# Altium integrated library Analog Devices Operational Amplifiers.IntLib: 2102 symbols (part 21 of 70)
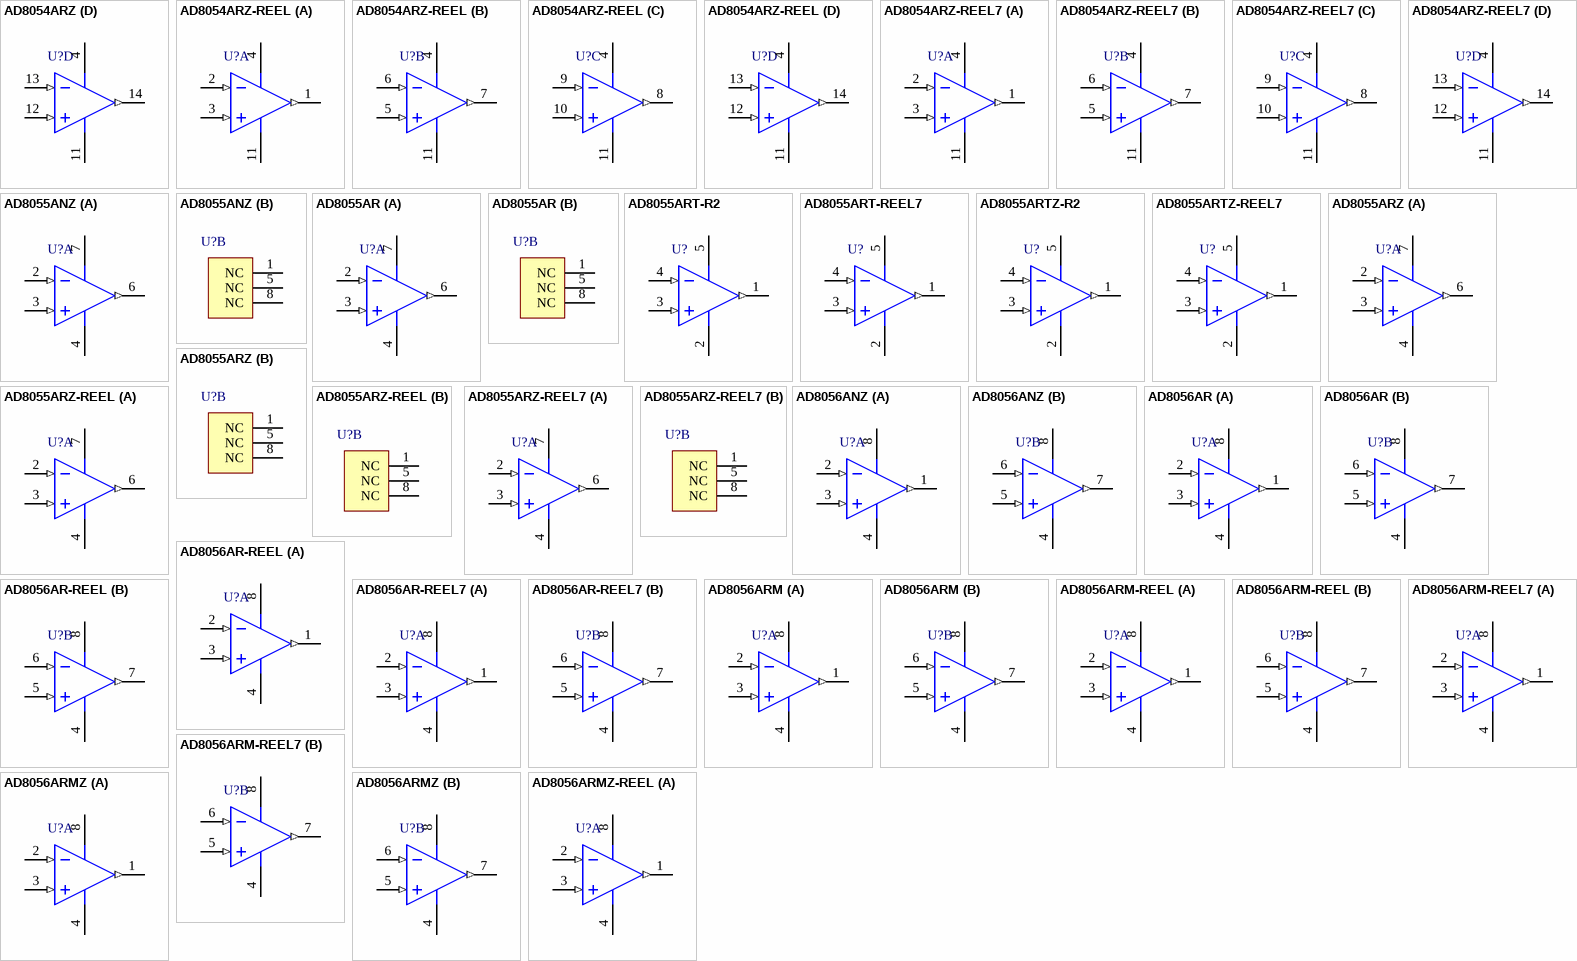
[diagram p134: symbols AD8054ARZ to AD8056ARMZ-REEL]

## AD8056AR-REEL7
designator U?
Double Channel Low Power Operational Amplifier, 300 MHz BW, 1.4 KV/us SR, Industrial, 8-pin SOIC (R-8), Reel; Generic Part Number: AD8056; Manufacturer: Analog Devices; PartNumber: AD8056AR-REEL7; Amplifiers Per Package: 2; Input Bias Current: 400nA; Input Offset Voltage: 3mV; Iq/Amp: 6mA; Small Signal Bandwidth: 300MHz; V Span Max: 12V; V Span Min: 8V; DatasheetVersion: Rev. J; PackageVersion: 060506-A; PackageReference: R-8; PackageDescription: 8-Pin Standard Small Outline Package, Body 3.9 x 4.9 mm, Pitch 1.27 mm; Supplier 1: Digi-Key; Supplier Part Number 1: AD8056AR-REEL7TR-ND; Supplier 2: Newark; Supplier Part Number 2: 09B6421; Packing: Reel; Slew Rate: 1.4KV/us; Mounting Technology: Surface Mount; Code_JEDEC: MS-012-AA; ComponentLink1Description: Manufacturer URL; ComponentLink1URL: http://www.analog.com/en/index.html; ComponentLink2Description: Datasheet; ComponentLink2URL: http://www.analog.com/static/imported-files/data_sheets/AD8055_8056.pdf; ComponentLink3Description: Package Specification; ComponentLink3URL: http://www.analog.com/static/imported-files/packages/PKG_PDF/SOIC_Narrow%20(R)/R_8.pdf
footprint ADI-R-8_N (SOIC, 8-Leads, Body 4.9x3.9mm, Pitch 1.27mm, IPC Medium Density)
footprint ADI-R-8_L (SOIC, 8-Leads, Body 4.9x3.9mm, Pitch 1.27mm, IPC High Density)
footprint ADI-R-8_M (SOIC, 8-Leads, Body 4.9x3.9mm, Pitch 1.27mm, IPC Low Density)
pins on every part: 4 -VS (power), 8 +VS (power)
part A pins: 1 OUT 1 (out), 2 -IN 1 (in), 3 +IN 1 (in)
part B pins: 5 +IN 2 (in), 6 -IN 2 (in), 7 OUT 2 (out)

## AD8056ARM
designator U?
Double Channel Low Power Operational Amplifier, 300 MHz BW, 1.4 KV/us SR, Industrial, 8-pin SOP (RM-8), Tube; Generic Part Number: AD8056; Manufacturer: Analog Devices; PartNumber: AD8056ARM; Amplifiers Per Package: 2; Input Bias Current: 400nA; Input Offset Voltage: 3mV; Iq/Amp: 6mA; Small Signal Bandwidth: 300MHz; V Span Max: 12V; V Span Min: 8V; DatasheetVersion: Rev. J; PackageReference: RM-8; PackageDescription: 8-Pin Mini Small Outline Package, Body 3 x 3 mm, Pitch 0.65 mm; Supplier 1: Digi-Key; Supplier Part Number 1: AD8056ARM-ND; Packing: Tube; Slew Rate: 1.4KV/us; Mounting Technology: Surface Mount; Code_JEDEC: MO-187-AA; ComponentLink1Description: Manufacturer URL; ComponentLink1URL: http://www.analog.com/en/index.html; ComponentLink2Description: Datasheet; ComponentLink2URL: http://www.analog.com/static/imported-files/data_sheets/AD8055_8056.pdf; ComponentLink3Description: Package Specification; ComponentLink3URL: http://www.analog.com/static/imported-files/packages/PKG_PDF/MSOP%28RM%29/RM_8.pdf
footprint ADI-RM-8_N (SOP, 8-Leads, Body 3x3mm, Pitch 0.65mm, IPC Medium Density)
footprint ADI-RM-8_L (SOP, 8-Leads, Body 3x3mm, Pitch 0.65mm, IPC High Density)
footprint ADI-RM-8_M (SOP, 8-Leads, Body 3x3mm, Pitch 0.65mm, IPC Low Density)
pins on every part: 4 -VS (power), 8 +VS (power)
part A pins: 1 OUT 1 (out), 2 -IN 1 (in), 3 +IN 1 (in)
part B pins: 5 +IN 2 (in), 6 -IN 2 (in), 7 OUT 2 (out)

## AD8056ARM-REEL
designator U?
Double Channel Low Power Operational Amplifier, 300 MHz BW, 1.4 KV/us SR, Industrial, 8-pin SOP (RM-8), Reel; Generic Part Number: AD8056; Manufacturer: Analog Devices; PartNumber: AD8056ARM-REEL; Amplifiers Per Package: 2; Input Bias Current: 400nA; Input Offset Voltage: 3mV; Iq/Amp: 6mA; Small Signal Bandwidth: 300MHz; V Span Max: 12V; V Span Min: 8V; DatasheetVersion: Rev. J; PackageReference: RM-8; PackageDescription: 8-Pin Mini Small Outline Package, Body 3 x 3 mm, Pitch 0.65 mm; Supplier 1: Digi-Key; Supplier Part Number 1: AD8056ARM-REEL-ND; Packing: Reel; Slew Rate: 1.4KV/us; Mounting Technology: Surface Mount; Code_JEDEC: MO-187-AA; ComponentLink1Description: Manufacturer URL; ComponentLink1URL: http://www.analog.com/en/index.html; ComponentLink2Description: Datasheet; ComponentLink2URL: http://www.analog.com/static/imported-files/data_sheets/AD8055_8056.pdf; ComponentLink3Description: Package Specification; ComponentLink3URL: http://www.analog.com/static/imported-files/packages/PKG_PDF/MSOP%28RM%29/RM_8.pdf
footprint ADI-RM-8_N (SOP, 8-Leads, Body 3x3mm, Pitch 0.65mm, IPC Medium Density)
footprint ADI-RM-8_L (SOP, 8-Leads, Body 3x3mm, Pitch 0.65mm, IPC High Density)
footprint ADI-RM-8_M (SOP, 8-Leads, Body 3x3mm, Pitch 0.65mm, IPC Low Density)
pins on every part: 4 -VS (power), 8 +VS (power)
part A pins: 1 OUT 1 (out), 2 -IN 1 (in), 3 +IN 1 (in)
part B pins: 5 +IN 2 (in), 6 -IN 2 (in), 7 OUT 2 (out)

## AD8056ARM-REEL7
designator U?
Double Channel Low Power Operational Amplifier, 300 MHz BW, 1.4 KV/us SR, Industrial, 8-pin SOP (RM-8), Reel; Generic Part Number: AD8056; Manufacturer: Analog Devices; PartNumber: AD8056ARM-REEL7; Amplifiers Per Package: 2; Input Bias Current: 400nA; Input Offset Voltage: 3mV; Iq/Amp: 6mA; Small Signal Bandwidth: 300MHz; V Span Max: 12V; V Span Min: 8V; DatasheetVersion: Rev. J; PackageReference: RM-8; PackageDescription: 8-Pin Mini Small Outline Package, Body 3 x 3 mm, Pitch 0.65 mm; Supplier 1: Digi-Key; Supplier Part Number 1: AD8056ARM-REEL7-ND; Packing: Reel; Slew Rate: 1.4KV/us; Mounting Technology: Surface Mount; Code_JEDEC: MO-187-AA; ComponentLink1Description: Manufacturer URL; ComponentLink1URL: http://www.analog.com/en/index.html; ComponentLink2Description: Datasheet; ComponentLink2URL: http://www.analog.com/static/imported-files/data_sheets/AD8055_8056.pdf; ComponentLink3Description: Package Specification; ComponentLink3URL: http://www.analog.com/static/imported-files/packages/PKG_PDF/MSOP%28RM%29/RM_8.pdf
footprint ADI-RM-8_N (SOP, 8-Leads, Body 3x3mm, Pitch 0.65mm, IPC Medium Density)
footprint ADI-RM-8_L (SOP, 8-Leads, Body 3x3mm, Pitch 0.65mm, IPC High Density)
footprint ADI-RM-8_M (SOP, 8-Leads, Body 3x3mm, Pitch 0.65mm, IPC Low Density)
pins on every part: 4 -VS (power), 8 +VS (power)
part A pins: 1 OUT 1 (out), 2 -IN 1 (in), 3 +IN 1 (in)
part B pins: 5 +IN 2 (in), 6 -IN 2 (in), 7 OUT 2 (out)

## AD8056ARMZ
designator U?
Double Channel Low Power Operational Amplifier, 300 MHz BW, 1.4 KV/us SR, Industrial, 8-pin SOP (RM-8), Tube; Generic Part Number: AD8056; Manufacturer: Analog Devices; PartNumber: AD8056ARMZ; Amplifiers Per Package: 2; Input Bias Current: 400nA; Input Offset Voltage: 3mV; Iq/Amp: 6mA; Small Signal Bandwidth: 300MHz; V Span Max: 12V; V Span Min: 8V; DatasheetVersion: Rev. J; PackageReference: RM-8; PackageDescription: 8-Pin Mini Small Outline Package, Body 3 x 3 mm, Pitch 0.65 mm; Supplier 1: Digi-Key; Supplier Part Number 1: AD8056ARMZ-ND; Supplier 2: Newark; Supplier Part Number 2: 59K6306; Packing: Tube; Slew Rate: 1.4KV/us; Mounting Technology: Surface Mount; Code_JEDEC: MO-187-AA; ComponentLink1Description: Manufacturer URL; ComponentLink1URL: http://www.analog.com/en/index.html; ComponentLink2Description: Datasheet; ComponentLink2URL: http://www.analog.com/static/imported-files/data_sheets/AD8055_8056.pdf; ComponentLink3Description: Package Specification; ComponentLink3URL: http://www.analog.com/static/imported-files/packages/PKG_PDF/MSOP%28RM%29/RM_8.pdf
footprint ADI-RM-8_N (SOP, 8-Leads, Body 3x3mm, Pitch 0.65mm, IPC Medium Density)
footprint ADI-RM-8_L (SOP, 8-Leads, Body 3x3mm, Pitch 0.65mm, IPC High Density)
footprint ADI-RM-8_M (SOP, 8-Leads, Body 3x3mm, Pitch 0.65mm, IPC Low Density)
pins on every part: 4 -VS (power), 8 +VS (power)
part A pins: 1 OUT 1 (out), 2 -IN 1 (in), 3 +IN 1 (in)
part B pins: 5 +IN 2 (in), 6 -IN 2 (in), 7 OUT 2 (out)

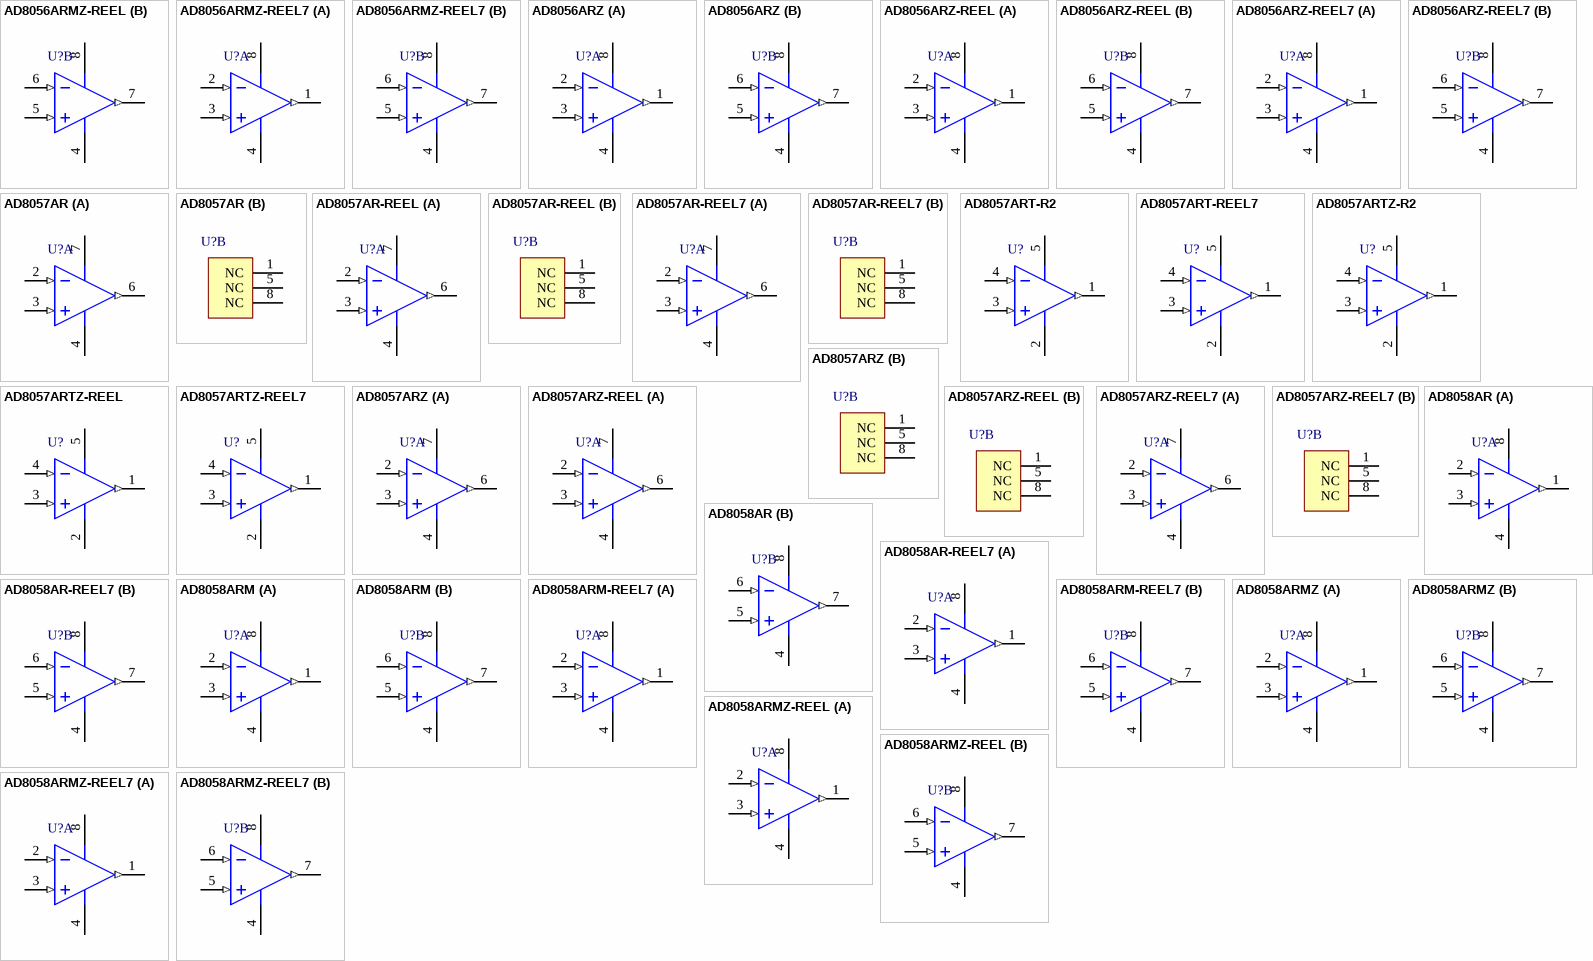
[diagram p31: symbols AD8056ARMZ-REEL to AD8058ARMZ-REEL7]

## AD8056ARMZ-REEL
designator U?
Double Channel Low Power Operational Amplifier, 300 MHz BW, 1.4 KV/us SR, Industrial, 8-pin SOP (RM-8), Reel; Generic Part Number: AD8056; Manufacturer: Analog Devices; PartNumber: AD8056ARMZ-REEL; Amplifiers Per Package: 2; Input Bias Current: 400nA; Input Offset Voltage: 3mV; Iq/Amp: 6mA; Small Signal Bandwidth: 300MHz; V Span Max: 12V; V Span Min: 8V; DatasheetVersion: Rev. J; PackageReference: RM-8; PackageDescription: 8-Pin Mini Small Outline Package, Body 3 x 3 mm, Pitch 0.65 mm; Supplier 1: Digi-Key; Supplier Part Number 1: AD8056ARMZ-REEL-ND; Packing: Reel; Slew Rate: 1.4KV/us; Mounting Technology: Surface Mount; Code_JEDEC: MO-187-AA; ComponentLink1Description: Manufacturer URL; ComponentLink1URL: http://www.analog.com/en/index.html; ComponentLink2Description: Datasheet; ComponentLink2URL: http://www.analog.com/static/imported-files/data_sheets/AD8055_8056.pdf; ComponentLink3Description: Package Specification; ComponentLink3URL: http://www.analog.com/static/imported-files/packages/PKG_PDF/MSOP%28RM%29/RM_8.pdf
footprint ADI-RM-8_N (SOP, 8-Leads, Body 3x3mm, Pitch 0.65mm, IPC Medium Density)
footprint ADI-RM-8_L (SOP, 8-Leads, Body 3x3mm, Pitch 0.65mm, IPC High Density)
footprint ADI-RM-8_M (SOP, 8-Leads, Body 3x3mm, Pitch 0.65mm, IPC Low Density)
pins on every part: 4 -VS (power), 8 +VS (power)
part A pins: 1 OUT 1 (out), 2 -IN 1 (in), 3 +IN 1 (in)
part B pins: 5 +IN 2 (in), 6 -IN 2 (in), 7 OUT 2 (out)

## AD8056ARMZ-REEL7
designator U?
Double Channel Low Power Operational Amplifier, 300 MHz BW, 1.4 KV/us SR, Industrial, 8-pin SOP (RM-8), Reel; Generic Part Number: AD8056; Manufacturer: Analog Devices; PartNumber: AD8056ARMZ-REEL7; Amplifiers Per Package: 2; Input Bias Current: 400nA; Input Offset Voltage: 3mV; Iq/Amp: 6mA; Small Signal Bandwidth: 300MHz; V Span Max: 12V; V Span Min: 8V; DatasheetVersion: Rev. J; PackageReference: RM-8; PackageDescription: 8-Pin Mini Small Outline Package, Body 3 x 3 mm, Pitch 0.65 mm; Supplier 1: Digi-Key; Supplier Part Number 1: AD8056ARMZ-REEL7-ND; Packing: Reel; Slew Rate: 1.4KV/us; Mounting Technology: Surface Mount; Code_JEDEC: MO-187-AA; ComponentLink1Description: Manufacturer URL; ComponentLink1URL: http://www.analog.com/en/index.html; ComponentLink2Description: Datasheet; ComponentLink2URL: http://www.analog.com/static/imported-files/data_sheets/AD8055_8056.pdf; ComponentLink3Description: Package Specification; ComponentLink3URL: http://www.analog.com/static/imported-files/packages/PKG_PDF/MSOP%28RM%29/RM_8.pdf
footprint ADI-RM-8_N (SOP, 8-Leads, Body 3x3mm, Pitch 0.65mm, IPC Medium Density)
footprint ADI-RM-8_L (SOP, 8-Leads, Body 3x3mm, Pitch 0.65mm, IPC High Density)
footprint ADI-RM-8_M (SOP, 8-Leads, Body 3x3mm, Pitch 0.65mm, IPC Low Density)
pins on every part: 4 -VS (power), 8 +VS (power)
part A pins: 1 OUT 1 (out), 2 -IN 1 (in), 3 +IN 1 (in)
part B pins: 5 +IN 2 (in), 6 -IN 2 (in), 7 OUT 2 (out)

## AD8056ARZ
designator U?
Double Channel Low Power Operational Amplifier, 300 MHz BW, 1.4 KV/us SR, Industrial, 8-pin SOIC (R-8), Tube; Generic Part Number: AD8056; Manufacturer: Analog Devices; PartNumber: AD8056ARZ; Amplifiers Per Package: 2; Input Bias Current: 400nA; Input Offset Voltage: 3mV; Iq/Amp: 6mA; Small Signal Bandwidth: 300MHz; V Span Max: 12V; V Span Min: 8V; DatasheetVersion: Rev. J; PackageVersion: 060506-A; PackageReference: R-8; PackageDescription: 8-Pin Standard Small Outline Package, Body 3.9 x 4.9 mm, Pitch 1.27 mm; Supplier 1: Digi-Key; Supplier Part Number 1: AD8056ARZ-ND; Supplier 2: Farnell; Supplier Part Number 2: 1660981; Supplier 3: Newark; Supplier Part Number 3: 82H2962; Packing: Tube; Slew Rate: 1.4KV/us; Mounting Technology: Surface Mount; Code_JEDEC: MS-012-AA; ComponentLink1Description: Manufacturer URL; ComponentLink1URL: http://www.analog.com/en/index.html; ComponentLink2Description: Datasheet; ComponentLink2URL: http://www.analog.com/static/imported-files/data_sheets/AD8055_8056.pdf; ComponentLink3Description: Package Specification; ComponentLink3URL: http://www.analog.com/static/imported-files/packages/PKG_PDF/SOIC_Narrow%20(R)/R_8.pdf
footprint ADI-R-8_N (SOIC, 8-Leads, Body 4.9x3.9mm, Pitch 1.27mm, IPC Medium Density)
footprint ADI-R-8_L (SOIC, 8-Leads, Body 4.9x3.9mm, Pitch 1.27mm, IPC High Density)
footprint ADI-R-8_M (SOIC, 8-Leads, Body 4.9x3.9mm, Pitch 1.27mm, IPC Low Density)
pins on every part: 4 -VS (power), 8 +VS (power)
part A pins: 1 OUT 1 (out), 2 -IN 1 (in), 3 +IN 1 (in)
part B pins: 5 +IN 2 (in), 6 -IN 2 (in), 7 OUT 2 (out)

## AD8056ARZ-REEL
designator U?
Double Channel Low Power Operational Amplifier, 300 MHz BW, 1.4 KV/us SR, Industrial, 8-pin SOIC (R-8), Reel; Generic Part Number: AD8056; Manufacturer: Analog Devices; PartNumber: AD8056ARZ-REEL; Amplifiers Per Package: 2; Input Bias Current: 400nA; Input Offset Voltage: 3mV; Iq/Amp: 6mA; Small Signal Bandwidth: 300MHz; V Span Max: 12V; V Span Min: 8V; DatasheetVersion: Rev. J; PackageVersion: 060506-A; PackageReference: R-8; PackageDescription: 8-Pin Standard Small Outline Package, Body 3.9 x 4.9 mm, Pitch 1.27 mm; Supplier 1: Digi-Key; Supplier Part Number 1: AD8056ARZ-REEL-ND; Packing: Reel; Slew Rate: 1.4KV/us; Mounting Technology: Surface Mount; Code_JEDEC: MS-012-AA; ComponentLink1Description: Manufacturer URL; ComponentLink1URL: http://www.analog.com/en/index.html; ComponentLink2Description: Datasheet; ComponentLink2URL: http://www.analog.com/static/imported-files/data_sheets/AD8055_8056.pdf; ComponentLink3Description: Package Specification; ComponentLink3URL: http://www.analog.com/static/imported-files/packages/PKG_PDF/SOIC_Narrow%20(R)/R_8.pdf
footprint ADI-R-8_N (SOIC, 8-Leads, Body 4.9x3.9mm, Pitch 1.27mm, IPC Medium Density)
footprint ADI-R-8_L (SOIC, 8-Leads, Body 4.9x3.9mm, Pitch 1.27mm, IPC High Density)
footprint ADI-R-8_M (SOIC, 8-Leads, Body 4.9x3.9mm, Pitch 1.27mm, IPC Low Density)
pins on every part: 4 -VS (power), 8 +VS (power)
part A pins: 1 OUT 1 (out), 2 -IN 1 (in), 3 +IN 1 (in)
part B pins: 5 +IN 2 (in), 6 -IN 2 (in), 7 OUT 2 (out)

## AD8056ARZ-REEL7
designator U?
Double Channel Low Power Operational Amplifier, 300 MHz BW, 1.4 KV/us SR, Industrial, 8-pin SOIC (R-8), Reel; Generic Part Number: AD8056; Manufacturer: Analog Devices; PartNumber: AD8056ARZ-REEL7; Amplifiers Per Package: 2; Input Bias Current: 400nA; Input Offset Voltage: 3mV; Iq/Amp: 6mA; Small Signal Bandwidth: 300MHz; V Span Max: 12V; V Span Min: 8V; DatasheetVersion: Rev. J; PackageVersion: 060506-A; PackageReference: R-8; PackageDescription: 8-Pin Standard Small Outline Package, Body 3.9 x 4.9 mm, Pitch 1.27 mm; Supplier 1: Digi-Key; Supplier Part Number 1: AD8056ARZ-REEL7-ND; Packing: Reel; Slew Rate: 1.4KV/us; Mounting Technology: Surface Mount; Code_JEDEC: MS-012-AA; ComponentLink1Description: Manufacturer URL; ComponentLink1URL: http://www.analog.com/en/index.html; ComponentLink2Description: Datasheet; ComponentLink2URL: http://www.analog.com/static/imported-files/data_sheets/AD8055_8056.pdf; ComponentLink3Description: Package Specification; ComponentLink3URL: http://www.analog.com/static/imported-files/packages/PKG_PDF/SOIC_Narrow%20(R)/R_8.pdf
footprint ADI-R-8_N (SOIC, 8-Leads, Body 4.9x3.9mm, Pitch 1.27mm, IPC Medium Density)
footprint ADI-R-8_L (SOIC, 8-Leads, Body 4.9x3.9mm, Pitch 1.27mm, IPC High Density)
footprint ADI-R-8_M (SOIC, 8-Leads, Body 4.9x3.9mm, Pitch 1.27mm, IPC Low Density)
pins on every part: 4 -VS (power), 8 +VS (power)
part A pins: 1 OUT 1 (out), 2 -IN 1 (in), 3 +IN 1 (in)
part B pins: 5 +IN 2 (in), 6 -IN 2 (in), 7 OUT 2 (out)

## AD8057AR
designator U?
Single Channel Low Power Operational Amplifier, 325 MHz BW, 1.15 KV/us SR, Industrial, 8-pin SOIC (R-8), Tube; Generic Part Number: AD8057; Manufacturer: Analog Devices; PartNumber: AD8057AR; Amplifiers Per Package: 1; Input Bias Current: 500nA; Input Offset Voltage: 1mV; Iq/Amp: 7.5mA; Small Signal Bandwidth: 325MHz; V Span Max: 12V; V Span Min: 3V; DatasheetVersion: Rev. C; PackageVersion: 060506-A; PackageReference: R-8; PackageDescription: 8-Pin Standard Small Outline Package, Body 3.9 x 4.9 mm, Pitch 1.27 mm; Supplier 1: Digi-Key; Supplier Part Number 1: AD8057AR-ND; Slew Rate: 1.15KV/us; Mounting Technology: Surface Mount; Code_JEDEC: MS-012-AA; ComponentLink1Description: Manufacturer URL; ComponentLink1URL: http://www.analog.com/en/index.html; ComponentLink2Description: Datasheet; ComponentLink2URL: http://www.analog.com/static/imported-files/data_sheets/AD8057_8058.pdf; ComponentLink3Description: Package Specification; ComponentLink3URL: http://www.analog.com/static/imported-files/packages/PKG_PDF/SOIC_Narrow%20(R)/R_8.pdf
footprint ADI-R-8_N (SOIC, 8-Leads, Body 4.9x3.9mm, Pitch 1.27mm, IPC Medium Density)
footprint ADI-R-8_L (SOIC, 8-Leads, Body 4.9x3.9mm, Pitch 1.27mm, IPC High Density)
footprint ADI-R-8_M (SOIC, 8-Leads, Body 4.9x3.9mm, Pitch 1.27mm, IPC Low Density)
part A pins: 2 -IN (in), 3 +IN (in), 4 -VS (power), 6 VOUT (out), 7 +VS (power)
part B pins: 1 NC, 5 NC, 8 NC

## AD8057AR-REEL
designator U?
Single Channel Low Power Operational Amplifier, 325 MHz BW, 1.15 KV/us SR, Industrial, 8-pin SOIC (R-8), Reel; Generic Part Number: AD8057; Manufacturer: Analog Devices; PartNumber: AD8057AR-REEL; Amplifiers Per Package: 1; Input Bias Current: 500nA; Input Offset Voltage: 1mV; Iq/Amp: 7.5mA; Small Signal Bandwidth: 325MHz; V Span Max: 12V; V Span Min: 3V; DatasheetVersion: Rev. C; PackageVersion: 060506-A; PackageReference: R-8; PackageDescription: 8-Pin Standard Small Outline Package, Body 3.9 x 4.9 mm, Pitch 1.27 mm; Supplier 1: Digi-Key; Supplier Part Number 1: AD8057AR-REEL-ND; Supplier 2: Newark; Supplier Part Number 2: 09B6423; Slew Rate: 1.15KV/us; Mounting Technology: Surface Mount; Code_JEDEC: MS-012-AA; ComponentLink1Description: Manufacturer URL; ComponentLink1URL: http://www.analog.com/en/index.html; ComponentLink2Description: Datasheet; ComponentLink2URL: http://www.analog.com/static/imported-files/data_sheets/AD8057_8058.pdf; ComponentLink3Description: Package Specification; ComponentLink3URL: http://www.analog.com/static/imported-files/packages/PKG_PDF/SOIC_Narrow%20(R)/R_8.pdf
footprint ADI-R-8_N (SOIC, 8-Leads, Body 4.9x3.9mm, Pitch 1.27mm, IPC Medium Density)
footprint ADI-R-8_L (SOIC, 8-Leads, Body 4.9x3.9mm, Pitch 1.27mm, IPC High Density)
footprint ADI-R-8_M (SOIC, 8-Leads, Body 4.9x3.9mm, Pitch 1.27mm, IPC Low Density)
part A pins: 2 -IN (in), 3 +IN (in), 4 -VS (power), 6 VOUT (out), 7 +VS (power)
part B pins: 1 NC, 5 NC, 8 NC

## AD8057AR-REEL7
designator U?
Single Channel Low Power Operational Amplifier, 325 MHz BW, 1.15 KV/us SR, Industrial, 8-pin SOIC (R-8), Reel; Generic Part Number: AD8057; Manufacturer: Analog Devices; PartNumber: AD8057AR-REEL7; Amplifiers Per Package: 1; Input Bias Current: 500nA; Input Offset Voltage: 1mV; Iq/Amp: 7.5mA; Small Signal Bandwidth: 325MHz; V Span Max: 12V; V Span Min: 3V; DatasheetVersion: Rev. C; PackageVersion: 060506-A; PackageReference: R-8; PackageDescription: 8-Pin Standard Small Outline Package, Body 3.9 x 4.9 mm, Pitch 1.27 mm; Supplier 1: Digi-Key; Supplier Part Number 1: AD8057AR-REEL7-ND; Slew Rate: 1.15KV/us; Mounting Technology: Surface Mount; Code_JEDEC: MS-012-AA; ComponentLink1Description: Manufacturer URL; ComponentLink1URL: http://www.analog.com/en/index.html; ComponentLink2Description: Datasheet; ComponentLink2URL: http://www.analog.com/static/imported-files/data_sheets/AD8057_8058.pdf; ComponentLink3Description: Package Specification; ComponentLink3URL: http://www.analog.com/static/imported-files/packages/PKG_PDF/SOIC_Narrow%20(R)/R_8.pdf
footprint ADI-R-8_N (SOIC, 8-Leads, Body 4.9x3.9mm, Pitch 1.27mm, IPC Medium Density)
footprint ADI-R-8_L (SOIC, 8-Leads, Body 4.9x3.9mm, Pitch 1.27mm, IPC High Density)
footprint ADI-R-8_M (SOIC, 8-Leads, Body 4.9x3.9mm, Pitch 1.27mm, IPC Low Density)
part A pins: 2 -IN (in), 3 +IN (in), 4 -VS (power), 6 VOUT (out), 7 +VS (power)
part B pins: 1 NC, 5 NC, 8 NC

## AD8057ART-R2
designator U?
Single Channel Low Power Operational Amplifier, 325 MHz BW, 1.15 KV/us SR, Industrial, 5-pin SOT23 (RJ-5), Reel; Generic Part Number: AD8057; Manufacturer: Analog Devices; PartNumber: AD8057ART-R2; Amplifiers Per Package: 1; Input Bias Current: 500nA; Input Offset Voltage: 1mV; Iq/Amp: 7.5mA; Small Signal Bandwidth: 325MHz; V Span Max: 12V; V Span Min: 3V; DatasheetVersion: Rev. C; PackageVersion: 121608-A; PackageReference: RJ-5; PackageDescription: 5-Pin Small Outline Transistor Package, Body 2.9 x 1.6 mm, Pitch 0.95 mm; Supplier 1: Newark; Supplier Part Number 1: 61H4962; Slew Rate: 1.15KV/us; Mounting Technology: Surface Mount; Code_JEDEC: MO-178-AA; ComponentLink1Description: Manufacturer URL; ComponentLink1URL: http://www.analog.com/en/index.html; ComponentLink2Description: Datasheet; ComponentLink2URL: http://www.analog.com/static/imported-files/data_sheets/AD8057_8058.pdf; ComponentLink3Description: Package Specification; ComponentLink3URL: http://www.analog.com/static/imported-files/packages/PKG_PDF/SOT-23(RJ)/RJ_5.pdf
footprint ADI-RJ-5_N (SOT-23, 5-Leads, Body 2.9x1.6mm, Pitch 0.95mm, IPC Medium Density)
footprint ADI-RJ-5_L (SOT-23, 5-Leads, Body 2.9x1.6mm, Pitch 0.95mm, IPC High Density)
footprint ADI-RJ-5_M (SOT-23, 5-Leads, Body 2.9x1.6mm, Pitch 0.95mm, IPC Low Density)
pins: 1 VOUT (out), 2 -VS (power), 3 +IN (in), 4 -IN (in), 5 +VS (power)

## AD8057ART-REEL7
designator U?
Single Channel Low Power Operational Amplifier, 325 MHz BW, 1.15 KV/us SR, Industrial, 5-pin SOT23 (RJ-5), Reel; Generic Part Number: AD8057; Manufacturer: Analog Devices; PartNumber: AD8057ART-REEL7; Amplifiers Per Package: 1; Input Bias Current: 500nA; Input Offset Voltage: 1mV; Iq/Amp: 7.5mA; Small Signal Bandwidth: 325MHz; V Span Max: 12V; V Span Min: 3V; DatasheetVersion: Rev. C; PackageVersion: 121608-A; PackageReference: RJ-5; PackageDescription: 5-Pin Small Outline Transistor Package, Body 2.9 x 1.6 mm, Pitch 0.95 mm; Supplier 1: Digi-Key; Supplier Part Number 1: AD8057ART-REEL7-ND; Supplier 2: Newark; Supplier Part Number 2: 09B6426; Slew Rate: 1.15KV/us; Mounting Technology: Surface Mount; Code_JEDEC: MO-178-AA; ComponentLink1Description: Manufacturer URL; ComponentLink1URL: http://www.analog.com/en/index.html; ComponentLink2Description: Datasheet; ComponentLink2URL: http://www.analog.com/static/imported-files/data_sheets/AD8057_8058.pdf; ComponentLink3Description: Package Specification; ComponentLink3URL: http://www.analog.com/static/imported-files/packages/PKG_PDF/SOT-23(RJ)/RJ_5.pdf
footprint ADI-RJ-5_N (SOT-23, 5-Leads, Body 2.9x1.6mm, Pitch 0.95mm, IPC Medium Density)
footprint ADI-RJ-5_L (SOT-23, 5-Leads, Body 2.9x1.6mm, Pitch 0.95mm, IPC High Density)
footprint ADI-RJ-5_M (SOT-23, 5-Leads, Body 2.9x1.6mm, Pitch 0.95mm, IPC Low Density)
pins: 1 VOUT (out), 2 -VS (power), 3 +IN (in), 4 -IN (in), 5 +VS (power)

## AD8057ARTZ-R2
designator U?
Single Channel Low Power Operational Amplifier, 325 MHz BW, 1.15 KV/us SR, Industrial, 5-pin SOT23 (RJ-5), Reel; Generic Part Number: AD8057; Manufacturer: Analog Devices; PartNumber: AD8057ARTZ-R2; Amplifiers Per Package: 1; Input Bias Current: 500nA; Input Offset Voltage: 1mV; Iq/Amp: 7.5mA; Small Signal Bandwidth: 325MHz; V Span Max: 12V; V Span Min: 3V; DatasheetVersion: Rev. C; PackageVersion: 121608-A; PackageReference: RJ-5; PackageDescription: 5-Pin Small Outline Transistor Package, Body 2.9 x 1.6 mm, Pitch 0.95 mm; Supplier 1: Newark; Supplier Part Number 1: 88H0151; Slew Rate: 1.15KV/us; Mounting Technology: Surface Mount; Code_JEDEC: MO-178-AA; ComponentLink1Description: Manufacturer URL; ComponentLink1URL: http://www.analog.com/en/index.html; ComponentLink2Description: Datasheet; ComponentLink2URL: http://www.analog.com/static/imported-files/data_sheets/AD8057_8058.pdf; ComponentLink3Description: Package Specification; ComponentLink3URL: http://www.analog.com/static/imported-files/packages/PKG_PDF/SOT-23(RJ)/RJ_5.pdf
footprint ADI-RJ-5_N (SOT-23, 5-Leads, Body 2.9x1.6mm, Pitch 0.95mm, IPC Medium Density)
footprint ADI-RJ-5_L (SOT-23, 5-Leads, Body 2.9x1.6mm, Pitch 0.95mm, IPC High Density)
footprint ADI-RJ-5_M (SOT-23, 5-Leads, Body 2.9x1.6mm, Pitch 0.95mm, IPC Low Density)
pins: 1 VOUT (out), 2 -VS (power), 3 +IN (in), 4 -IN (in), 5 +VS (power)

## AD8057ARTZ-REEL
designator U?
Single Channel Low Power Operational Amplifier, 325 MHz BW, 1.15 KV/us SR, Industrial, 5-pin SOT23 (RJ-5), Reel; Generic Part Number: AD8057; Manufacturer: Analog Devices; PartNumber: AD8057ARTZ-REEL; Amplifiers Per Package: 1; Input Bias Current: 500nA; Input Offset Voltage: 1mV; Iq/Amp: 7.5mA; Small Signal Bandwidth: 325MHz; V Span Max: 12V; V Span Min: 3V; DatasheetVersion: Rev. C; PackageVersion: 121608-A; PackageReference: RJ-5; PackageDescription: 5-Pin Small Outline Transistor Package, Body 2.9 x 1.6 mm, Pitch 0.95 mm; Supplier 1: Digi-Key; Supplier Part Number 1: AD8057ARTZ-REEL-ND; Supplier 2: Newark; Supplier Part Number 2: 88H0149; Slew Rate: 1.15KV/us; Mounting Technology: Surface Mount; Code_JEDEC: MO-178-AA; ComponentLink1Description: Manufacturer URL; ComponentLink1URL: http://www.analog.com/en/index.html; ComponentLink2Description: Datasheet; ComponentLink2URL: http://www.analog.com/static/imported-files/data_sheets/AD8057_8058.pdf; ComponentLink3Description: Package Specification; ComponentLink3URL: http://www.analog.com/static/imported-files/packages/PKG_PDF/SOT-23(RJ)/RJ_5.pdf
footprint ADI-RJ-5_N (SOT-23, 5-Leads, Body 2.9x1.6mm, Pitch 0.95mm, IPC Medium Density)
footprint ADI-RJ-5_L (SOT-23, 5-Leads, Body 2.9x1.6mm, Pitch 0.95mm, IPC High Density)
footprint ADI-RJ-5_M (SOT-23, 5-Leads, Body 2.9x1.6mm, Pitch 0.95mm, IPC Low Density)
pins: 1 VOUT (out), 2 -VS (power), 3 +IN (in), 4 -IN (in), 5 +VS (power)

## AD8057ARTZ-REEL7
designator U?
Single Channel Low Power Operational Amplifier, 325 MHz BW, 1.15 KV/us SR, Industrial, 5-pin SOT23 (RJ-5), Reel; Generic Part Number: AD8057; Manufacturer: Analog Devices; PartNumber: AD8057ARTZ-REEL7; Amplifiers Per Package: 1; Input Bias Current: 500nA; Input Offset Voltage: 1mV; Iq/Amp: 7.5mA; Small Signal Bandwidth: 325MHz; V Span Max: 12V; V Span Min: 3V; DatasheetVersion: Rev. C; PackageVersion: 121608-A; PackageReference: RJ-5; PackageDescription: 5-Pin Small Outline Transistor Package, Body 2.9 x 1.6 mm, Pitch 0.95 mm; Supplier 1: Digi-Key; Supplier Part Number 1: AD8057ARTZ-REEL7TR-ND; Supplier 2: Digi-Key; Supplier Part Number 2: AD8057ARTZ-REEL7CT-ND; Supplier 3: Digi-Key; Supplier Part Number 3: AD8057ARTZ-REEL7DKR-ND; Supplier 4: Newark; Supplier Part Number 4: 88H0150; Slew Rate: 1.15KV/us; Mounting Technology: Surface Mount; Code_JEDEC: MO-178-AA; ComponentLink1Description: Manufacturer URL; ComponentLink1URL: http://www.analog.com/en/index.html; ComponentLink2Description: Datasheet; ComponentLink2URL: http://www.analog.com/static/imported-files/data_sheets/AD8057_8058.pdf; ComponentLink3Description: Package Specification; ComponentLink3URL: http://www.analog.com/static/imported-files/packages/PKG_PDF/SOT-23(RJ)/RJ_5.pdf
footprint ADI-RJ-5_N (SOT-23, 5-Leads, Body 2.9x1.6mm, Pitch 0.95mm, IPC Medium Density)
footprint ADI-RJ-5_L (SOT-23, 5-Leads, Body 2.9x1.6mm, Pitch 0.95mm, IPC High Density)
footprint ADI-RJ-5_M (SOT-23, 5-Leads, Body 2.9x1.6mm, Pitch 0.95mm, IPC Low Density)
pins: 1 VOUT (out), 2 -VS (power), 3 +IN (in), 4 -IN (in), 5 +VS (power)

## AD8057ARZ
designator U?
Single Channel Low Power Operational Amplifier, 325 MHz BW, 1.15 KV/us SR, Industrial, 8-pin SOIC (R-8), Tube; Generic Part Number: AD8057; Manufacturer: Analog Devices; PartNumber: AD8057ARZ; Amplifiers Per Package: 1; Input Bias Current: 500nA; Input Offset Voltage: 1mV; Iq/Amp: 7.5mA; Small Signal Bandwidth: 325MHz; V Span Max: 12V; V Span Min: 3V; DatasheetVersion: Rev. C; PackageVersion: 060506-A; PackageReference: R-8; PackageDescription: 8-Pin Standard Small Outline Package, Body 3.9 x 4.9 mm, Pitch 1.27 mm; Supplier 1: Digi-Key; Supplier Part Number 1: AD8057ARZ-ND; Supplier 2: Farnell; Supplier Part Number 2: 9425713; Supplier 3: Newark; Supplier Part Number 3: 19M0926; Slew Rate: 1.15KV/us; Mounting Technology: Surface Mount; Code_JEDEC: MS-012-AA; ComponentLink1Description: Manufacturer URL; ComponentLink1URL: http://www.analog.com/en/index.html; ComponentLink2Description: Datasheet; ComponentLink2URL: http://www.analog.com/static/imported-files/data_sheets/AD8057_8058.pdf; ComponentLink3Description: Package Specification; ComponentLink3URL: http://www.analog.com/static/imported-files/packages/PKG_PDF/SOIC_Narrow%20(R)/R_8.pdf
footprint ADI-R-8_N (SOIC, 8-Leads, Body 4.9x3.9mm, Pitch 1.27mm, IPC Medium Density)
footprint ADI-R-8_L (SOIC, 8-Leads, Body 4.9x3.9mm, Pitch 1.27mm, IPC High Density)
footprint ADI-R-8_M (SOIC, 8-Leads, Body 4.9x3.9mm, Pitch 1.27mm, IPC Low Density)
part A pins: 2 -IN (in), 3 +IN (in), 4 -VS (power), 6 VOUT (out), 7 +VS (power)
part B pins: 1 NC, 5 NC, 8 NC

## AD8057ARZ-REEL
designator U?
Single Channel Low Power Operational Amplifier, 325 MHz BW, 1.15 KV/us SR, Industrial, 8-pin SOIC (R-8), Reel; Generic Part Number: AD8057; Manufacturer: Analog Devices; PartNumber: AD8057ARZ-REEL; Amplifiers Per Package: 1; Input Bias Current: 500nA; Input Offset Voltage: 1mV; Iq/Amp: 7.5mA; Small Signal Bandwidth: 325MHz; V Span Max: 12V; V Span Min: 3V; DatasheetVersion: Rev. C; PackageVersion: 060506-A; PackageReference: R-8; PackageDescription: 8-Pin Standard Small Outline Package, Body 3.9 x 4.9 mm, Pitch 1.27 mm; Supplier 1: Digi-Key; Supplier Part Number 1: AD8057ARZ-REEL-ND; Supplier 2: Newark; Supplier Part Number 2: 88H0153; Slew Rate: 1.15KV/us; Mounting Technology: Surface Mount; Code_JEDEC: MS-012-AA; ComponentLink1Description: Manufacturer URL; ComponentLink1URL: http://www.analog.com/en/index.html; ComponentLink2Description: Datasheet; ComponentLink2URL: http://www.analog.com/static/imported-files/data_sheets/AD8057_8058.pdf; ComponentLink3Description: Package Specification; ComponentLink3URL: http://www.analog.com/static/imported-files/packages/PKG_PDF/SOIC_Narrow%20(R)/R_8.pdf
footprint ADI-R-8_N (SOIC, 8-Leads, Body 4.9x3.9mm, Pitch 1.27mm, IPC Medium Density)
footprint ADI-R-8_L (SOIC, 8-Leads, Body 4.9x3.9mm, Pitch 1.27mm, IPC High Density)
footprint ADI-R-8_M (SOIC, 8-Leads, Body 4.9x3.9mm, Pitch 1.27mm, IPC Low Density)
part A pins: 2 -IN (in), 3 +IN (in), 4 -VS (power), 6 VOUT (out), 7 +VS (power)
part B pins: 1 NC, 5 NC, 8 NC

## AD8057ARZ-REEL7
designator U?
Single Channel Low Power Operational Amplifier, 325 MHz BW, 1.15 KV/us SR, Industrial, 8-pin SOIC (R-8), Reel; Generic Part Number: AD8057; Manufacturer: Analog Devices; PartNumber: AD8057ARZ-REEL7; Amplifiers Per Package: 1; Input Bias Current: 500nA; Input Offset Voltage: 1mV; Iq/Amp: 7.5mA; Small Signal Bandwidth: 325MHz; V Span Max: 12V; V Span Min: 3V; DatasheetVersion: Rev. C; PackageVersion: 060506-A; PackageReference: R-8; PackageDescription: 8-Pin Standard Small Outline Package, Body 3.9 x 4.9 mm, Pitch 1.27 mm; Supplier 1: Digi-Key; Supplier Part Number 1: AD8057ARZ-REEL7-ND; Supplier 2: Newark; Supplier Part Number 2: 88H0154; Slew Rate: 1.15KV/us; Mounting Technology: Surface Mount; Code_JEDEC: MS-012-AA; ComponentLink1Description: Manufacturer URL; ComponentLink1URL: http://www.analog.com/en/index.html; ComponentLink2Description: Datasheet; ComponentLink2URL: http://www.analog.com/static/imported-files/data_sheets/AD8057_8058.pdf; ComponentLink3Description: Package Specification; ComponentLink3URL: http://www.analog.com/static/imported-files/packages/PKG_PDF/SOIC_Narrow%20(R)/R_8.pdf
footprint ADI-R-8_N (SOIC, 8-Leads, Body 4.9x3.9mm, Pitch 1.27mm, IPC Medium Density)
footprint ADI-R-8_L (SOIC, 8-Leads, Body 4.9x3.9mm, Pitch 1.27mm, IPC High Density)
footprint ADI-R-8_M (SOIC, 8-Leads, Body 4.9x3.9mm, Pitch 1.27mm, IPC Low Density)
part A pins: 2 -IN (in), 3 +IN (in), 4 -VS (power), 6 VOUT (out), 7 +VS (power)
part B pins: 1 NC, 5 NC, 8 NC

## AD8058AR
designator U?
Double Channel Low Power Operational Amplifier, 325 MHz BW, 1.15 KV/us SR, Industrial, 8-pin SOIC (R-8), Tube; Generic Part Number: AD8058; Manufacturer: Analog Devices; PartNumber: AD8058AR; Amplifiers Per Package: 2; Input Bias Current: 500nA; Input Offset Voltage: 1mV; Iq/Amp: 7.5mA; Small Signal Bandwidth: 325MHz; V Span Max: 12V; V Span Min: 3V; DatasheetVersion: Rev. C; PackageVersion: 060506-A; PackageReference: R-8; PackageDescription: 8-Pin Standard Small Outline Package, Body 3.9 x 4.9 mm, Pitch 1.27 mm; Supplier 1: Digi-Key; Supplier Part Number 1: AD8058AR-ND; Slew Rate: 1.15KV/us; Mounting Technology: Surface Mount; Code_JEDEC: MS-012-AA; ComponentLink1Description: Manufacturer URL; ComponentLink1URL: http://www.analog.com/en/index.html; ComponentLink2Description: Datasheet; ComponentLink2URL: http://www.analog.com/static/imported-files/data_sheets/AD8057_8058.pdf; ComponentLink3Description: Package Specification; ComponentLink3URL: http://www.analog.com/static/imported-files/packages/PKG_PDF/SOIC_Narrow%20(R)/R_8.pdf
footprint ADI-R-8_N (SOIC, 8-Leads, Body 4.9x3.9mm, Pitch 1.27mm, IPC Medium Density)
footprint ADI-R-8_L (SOIC, 8-Leads, Body 4.9x3.9mm, Pitch 1.27mm, IPC High Density)
footprint ADI-R-8_M (SOIC, 8-Leads, Body 4.9x3.9mm, Pitch 1.27mm, IPC Low Density)
pins on every part: 4 -VS (power), 8 +VS (power)
part A pins: 1 OUT 1 (out), 2 -IN 1 (in), 3 +IN 1 (in)
part B pins: 5 +IN 2 (in), 6 -IN 2 (in), 7 OUT 2 (out)

## AD8058AR-REEL7
designator U?
Double Channel Low Power Operational Amplifier, 325 MHz BW, 1.15 KV/us SR, Industrial, 8-pin SOIC (R-8), Reel; Generic Part Number: AD8058; Manufacturer: Analog Devices; PartNumber: AD8058AR-REEL7; Amplifiers Per Package: 2; Input Bias Current: 500nA; Input Offset Voltage: 1mV; Iq/Amp: 7.5mA; Small Signal Bandwidth: 325MHz; V Span Max: 12V; V Span Min: 3V; DatasheetVersion: Rev. C; PackageVersion: 060506-A; PackageReference: R-8; PackageDescription: 8-Pin Standard Small Outline Package, Body 3.9 x 4.9 mm, Pitch 1.27 mm; Supplier 1: Digi-Key; Supplier Part Number 1: AD8058AR-REEL7-ND; Supplier 2: Newark; Supplier Part Number 2: 09B6432; Slew Rate: 1.15KV/us; Mounting Technology: Surface Mount; Code_JEDEC: MS-012-AA; ComponentLink1Description: Manufacturer URL; ComponentLink1URL: http://www.analog.com/en/index.html; ComponentLink2Description: Datasheet; ComponentLink2URL: http://www.analog.com/static/imported-files/data_sheets/AD8057_8058.pdf; ComponentLink3Description: Package Specification; ComponentLink3URL: http://www.analog.com/static/imported-files/packages/PKG_PDF/SOIC_Narrow%20(R)/R_8.pdf
footprint ADI-R-8_N (SOIC, 8-Leads, Body 4.9x3.9mm, Pitch 1.27mm, IPC Medium Density)
footprint ADI-R-8_L (SOIC, 8-Leads, Body 4.9x3.9mm, Pitch 1.27mm, IPC High Density)
footprint ADI-R-8_M (SOIC, 8-Leads, Body 4.9x3.9mm, Pitch 1.27mm, IPC Low Density)
pins on every part: 4 -VS (power), 8 +VS (power)
part A pins: 1 OUT 1 (out), 2 -IN 1 (in), 3 +IN 1 (in)
part B pins: 5 +IN 2 (in), 6 -IN 2 (in), 7 OUT 2 (out)

## AD8058ARM
designator U?
Double Channel Low Power Operational Amplifier, 325 MHz BW, 1.15 KV/us SR, Industrial, 8-pin SOP (RM-8), Tube; Generic Part Number: AD8058; Manufacturer: Analog Devices; PartNumber: AD8058ARM; Amplifiers Per Package: 2; Input Bias Current: 500nA; Input Offset Voltage: 1mV; Iq/Amp: 7.5mA; Small Signal Bandwidth: 325MHz; V Span Max: 12V; V Span Min: 3V; DatasheetVersion: Rev. C; PackageReference: RM-8; PackageDescription: 8-Pin Mini Small Outline Package, Body 3 x 3 mm, Pitch 0.65 mm; Supplier 1: Digi-Key; Supplier Part Number 1: AD8058ARM-ND; Slew Rate: 1.15KV/us; Mounting Technology: Surface Mount; Code_JEDEC: MO-187-AA; ComponentLink1Description: Manufacturer URL; ComponentLink1URL: http://www.analog.com/en/index.html; ComponentLink2Description: Datasheet; ComponentLink2URL: http://www.analog.com/static/imported-files/data_sheets/AD8057_8058.pdf; ComponentLink3Description: Package Specification; ComponentLink3URL: http://www.analog.com/static/imported-files/packages/PKG_PDF/MSOP%28RM%29/RM_8.pdf
footprint ADI-RM-8_N (SOP, 8-Leads, Body 3x3mm, Pitch 0.65mm, IPC Medium Density)
footprint ADI-RM-8_L (SOP, 8-Leads, Body 3x3mm, Pitch 0.65mm, IPC High Density)
footprint ADI-RM-8_M (SOP, 8-Leads, Body 3x3mm, Pitch 0.65mm, IPC Low Density)
pins on every part: 4 -VS (power), 8 +VS (power)
part A pins: 1 OUT 1 (out), 2 -IN 1 (in), 3 +IN 1 (in)
part B pins: 5 +IN 2 (in), 6 -IN 2 (in), 7 OUT 2 (out)

## AD8058ARM-REEL7
designator U?
Double Channel Low Power Operational Amplifier, 325 MHz BW, 1.15 KV/us SR, Industrial, 8-pin SOP (RM-8), Reel; Generic Part Number: AD8058; Manufacturer: Analog Devices; PartNumber: AD8058ARM-REEL7; Amplifiers Per Package: 2; Input Bias Current: 500nA; Input Offset Voltage: 1mV; Iq/Amp: 7.5mA; Small Signal Bandwidth: 325MHz; V Span Max: 12V; V Span Min: 3V; DatasheetVersion: Rev. C; PackageReference: RM-8; PackageDescription: 8-Pin Mini Small Outline Package, Body 3 x 3 mm, Pitch 0.65 mm; Supplier 1: Digi-Key; Supplier Part Number 1: AD8058ARM-REEL7-ND; Supplier 2: Newark; Supplier Part Number 2: 09B6430; Slew Rate: 1.15KV/us; Mounting Technology: Surface Mount; Code_JEDEC: MO-187-AA; ComponentLink1Description: Manufacturer URL; ComponentLink1URL: http://www.analog.com/en/index.html; ComponentLink2Description: Datasheet; ComponentLink2URL: http://www.analog.com/static/imported-files/data_sheets/AD8057_8058.pdf; ComponentLink3Description: Package Specification; ComponentLink3URL: http://www.analog.com/static/imported-files/packages/PKG_PDF/MSOP%28RM%29/RM_8.pdf
footprint ADI-RM-8_N (SOP, 8-Leads, Body 3x3mm, Pitch 0.65mm, IPC Medium Density)
footprint ADI-RM-8_L (SOP, 8-Leads, Body 3x3mm, Pitch 0.65mm, IPC High Density)
footprint ADI-RM-8_M (SOP, 8-Leads, Body 3x3mm, Pitch 0.65mm, IPC Low Density)
pins on every part: 4 -VS (power), 8 +VS (power)
part A pins: 1 OUT 1 (out), 2 -IN 1 (in), 3 +IN 1 (in)
part B pins: 5 +IN 2 (in), 6 -IN 2 (in), 7 OUT 2 (out)

## AD8058ARMZ
designator U?
Double Channel Low Power Operational Amplifier, 325 MHz BW, 1.15 KV/us SR, Industrial, 8-pin SOP (RM-8), Tube; Generic Part Number: AD8058; Manufacturer: Analog Devices; PartNumber: AD8058ARMZ; Amplifiers Per Package: 2; Input Bias Current: 500nA; Input Offset Voltage: 1mV; Iq/Amp: 7.5mA; Small Signal Bandwidth: 325MHz; V Span Max: 12V; V Span Min: 3V; DatasheetVersion: Rev. C; PackageReference: RM-8; PackageDescription: 8-Pin Mini Small Outline Package, Body 3 x 3 mm, Pitch 0.65 mm; Supplier 1: Digi-Key; Supplier Part Number 1: AD8058ARMZ-ND; Supplier 2: Newark; Supplier Part Number 2: 82H2964; Slew Rate: 1.15KV/us; Mounting Technology: Surface Mount; Code_JEDEC: MO-187-AA; ComponentLink1Description: Manufacturer URL; ComponentLink1URL: http://www.analog.com/en/index.html; ComponentLink2Description: Datasheet; ComponentLink2URL: http://www.analog.com/static/imported-files/data_sheets/AD8057_8058.pdf; ComponentLink3Description: Package Specification; ComponentLink3URL: http://www.analog.com/static/imported-files/packages/PKG_PDF/MSOP%28RM%29/RM_8.pdf
footprint ADI-RM-8_N (SOP, 8-Leads, Body 3x3mm, Pitch 0.65mm, IPC Medium Density)
footprint ADI-RM-8_L (SOP, 8-Leads, Body 3x3mm, Pitch 0.65mm, IPC High Density)
footprint ADI-RM-8_M (SOP, 8-Leads, Body 3x3mm, Pitch 0.65mm, IPC Low Density)
pins on every part: 4 -VS (power), 8 +VS (power)
part A pins: 1 OUT 1 (out), 2 -IN 1 (in), 3 +IN 1 (in)
part B pins: 5 +IN 2 (in), 6 -IN 2 (in), 7 OUT 2 (out)

## AD8058ARMZ-REEL
designator U?
Double Channel Low Power Operational Amplifier, 325 MHz BW, 1.15 KV/us SR, Industrial, 8-pin SOP (RM-8), Reel; Generic Part Number: AD8058; Manufacturer: Analog Devices; PartNumber: AD8058ARMZ-REEL; Amplifiers Per Package: 2; Input Bias Current: 500nA; Input Offset Voltage: 1mV; Iq/Amp: 7.5mA; Small Signal Bandwidth: 325MHz; V Span Max: 12V; V Span Min: 3V; DatasheetVersion: Rev. C; PackageReference: RM-8; PackageDescription: 8-Pin Mini Small Outline Package, Body 3 x 3 mm, Pitch 0.65 mm; Supplier 1: Digi-Key; Supplier Part Number 1: AD8058ARMZ-REEL-ND; Supplier 2: Newark; Supplier Part Number 2: 82H2965; Slew Rate: 1.15KV/us; Mounting Technology: Surface Mount; Code_JEDEC: MO-187-AA; ComponentLink1Description: Manufacturer URL; ComponentLink1URL: http://www.analog.com/en/index.html; ComponentLink2Description: Datasheet; ComponentLink2URL: http://www.analog.com/static/imported-files/data_sheets/AD8057_8058.pdf; ComponentLink3Description: Package Specification; ComponentLink3URL: http://www.analog.com/static/imported-files/packages/PKG_PDF/MSOP%28RM%29/RM_8.pdf
footprint ADI-RM-8_N (SOP, 8-Leads, Body 3x3mm, Pitch 0.65mm, IPC Medium Density)
footprint ADI-RM-8_L (SOP, 8-Leads, Body 3x3mm, Pitch 0.65mm, IPC High Density)
footprint ADI-RM-8_M (SOP, 8-Leads, Body 3x3mm, Pitch 0.65mm, IPC Low Density)
pins on every part: 4 -VS (power), 8 +VS (power)
part A pins: 1 OUT 1 (out), 2 -IN 1 (in), 3 +IN 1 (in)
part B pins: 5 +IN 2 (in), 6 -IN 2 (in), 7 OUT 2 (out)

## AD8058ARMZ-REEL7
designator U?
Double Channel Low Power Operational Amplifier, 325 MHz BW, 1.15 KV/us SR, Industrial, 8-pin SOP (RM-8), Reel; Generic Part Number: AD8058; Manufacturer: Analog Devices; PartNumber: AD8058ARMZ-REEL7; Amplifiers Per Package: 2; Input Bias Current: 500nA; Input Offset Voltage: 1mV; Iq/Amp: 7.5mA; Small Signal Bandwidth: 325MHz; V Span Max: 12V; V Span Min: 3V; DatasheetVersion: Rev. C; PackageReference: RM-8; PackageDescription: 8-Pin Mini Small Outline Package, Body 3 x 3 mm, Pitch 0.65 mm; Supplier 1: Digi-Key; Supplier Part Number 1: AD8058ARMZ-REEL7TR-ND; Supplier 2: Digi-Key; Supplier Part Number 2: AD8058ARMZ-REEL7CT-ND; Supplier 3: Digi-Key; Supplier Part Number 3: AD8058ARMZ-REEL7DKR-ND; Supplier 4: Newark; Supplier Part Number 4: 82H2966; Slew Rate: 1.15KV/us; Mounting Technology: Surface Mount; Code_JEDEC: MO-187-AA; ComponentLink1Description: Manufacturer URL; ComponentLink1URL: http://www.analog.com/en/index.html; ComponentLink2Description: Datasheet; ComponentLink2URL: http://www.analog.com/static/imported-files/data_sheets/AD8057_8058.pdf; ComponentLink3Description: Package Specification; ComponentLink3URL: http://www.analog.com/static/imported-files/packages/PKG_PDF/MSOP%28RM%29/RM_8.pdf
footprint ADI-RM-8_N (SOP, 8-Leads, Body 3x3mm, Pitch 0.65mm, IPC Medium Density)
footprint ADI-RM-8_L (SOP, 8-Leads, Body 3x3mm, Pitch 0.65mm, IPC High Density)
footprint ADI-RM-8_M (SOP, 8-Leads, Body 3x3mm, Pitch 0.65mm, IPC Low Density)
pins on every part: 4 -VS (power), 8 +VS (power)
part A pins: 1 OUT 1 (out), 2 -IN 1 (in), 3 +IN 1 (in)
part B pins: 5 +IN 2 (in), 6 -IN 2 (in), 7 OUT 2 (out)

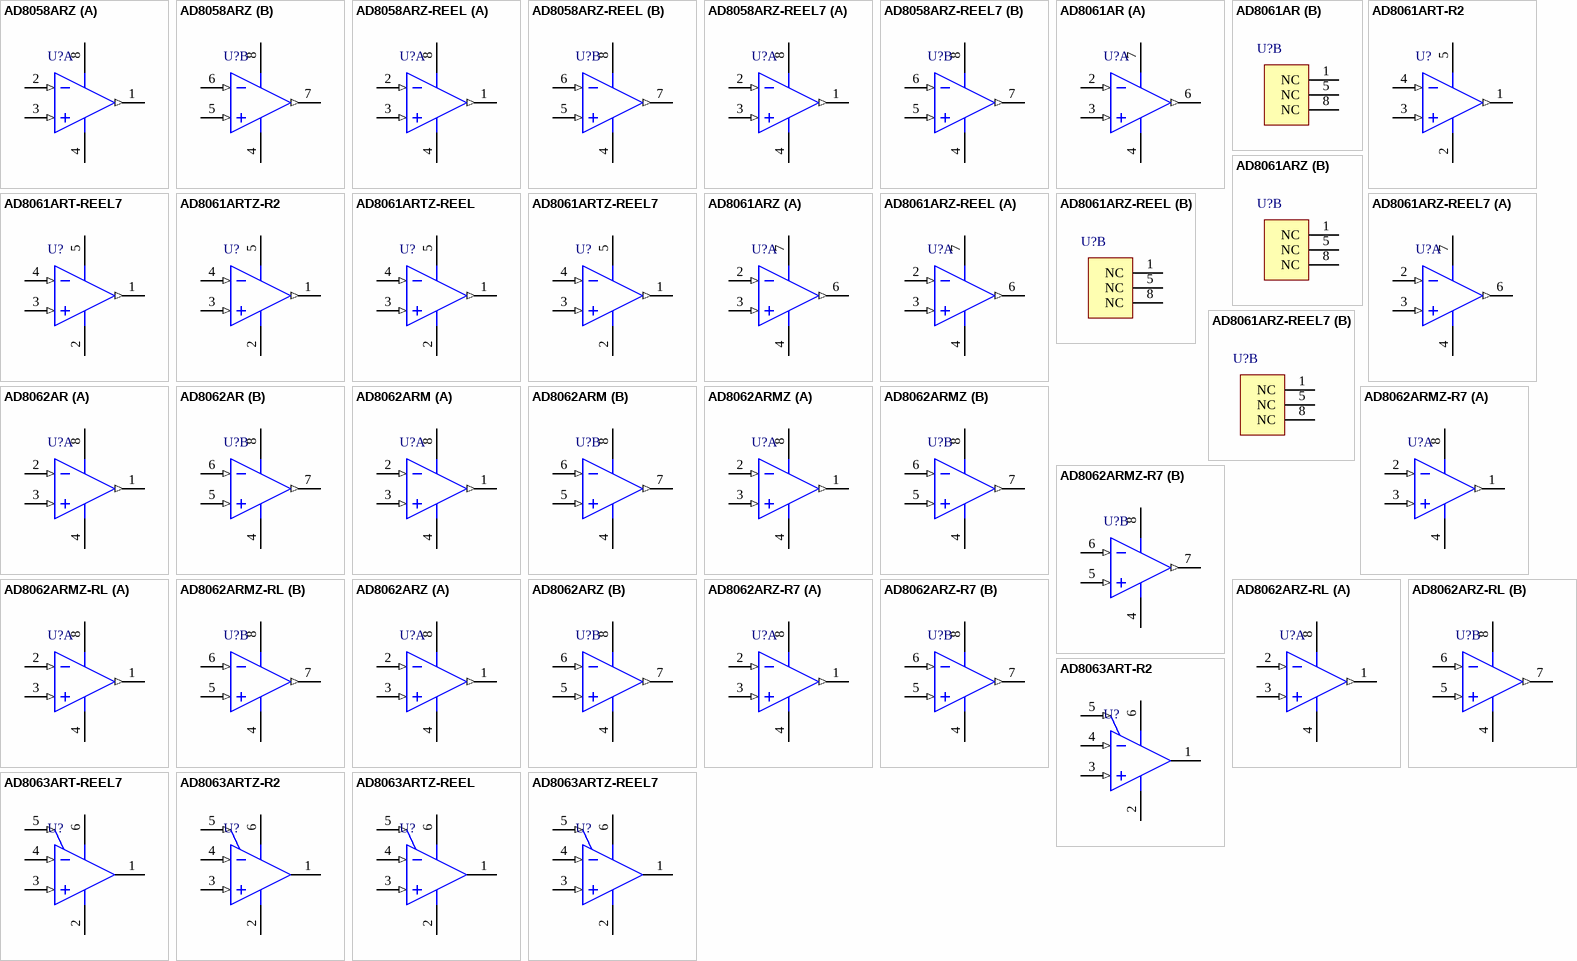
[diagram p32: symbols AD8058ARZ to AD8063ARTZ-REEL7]

## AD8058ARZ
designator U?
Double Channel Low Power Operational Amplifier, 325 MHz BW, 1.15 KV/us SR, Industrial, 8-pin SOIC (R-8), Tube; Generic Part Number: AD8058; Manufacturer: Analog Devices; PartNumber: AD8058ARZ; Amplifiers Per Package: 2; Input Bias Current: 500nA; Input Offset Voltage: 1mV; Iq/Amp: 7.5mA; Small Signal Bandwidth: 325MHz; V Span Max: 12V; V Span Min: 3V; DatasheetVersion: Rev. C; PackageVersion: 060506-A; PackageReference: R-8; PackageDescription: 8-Pin Standard Small Outline Package, Body 3.9 x 4.9 mm, Pitch 1.27 mm; Supplier 1: Digi-Key; Supplier Part Number 1: AD8058ARZ-ND; Supplier 2: Farnell; Supplier Part Number 2: 9425721; Supplier 3: Newark; Supplier Part Number 3: 19M0927; Slew Rate: 1.15KV/us; Mounting Technology: Surface Mount; Code_JEDEC: MS-012-AA; ComponentLink1Description: Manufacturer URL; ComponentLink1URL: http://www.analog.com/en/index.html; ComponentLink2Description: Datasheet; ComponentLink2URL: http://www.analog.com/static/imported-files/data_sheets/AD8057_8058.pdf; ComponentLink3Description: Package Specification; ComponentLink3URL: http://www.analog.com/static/imported-files/packages/PKG_PDF/SOIC_Narrow%20(R)/R_8.pdf
footprint ADI-R-8_N (SOIC, 8-Leads, Body 4.9x3.9mm, Pitch 1.27mm, IPC Medium Density)
footprint ADI-R-8_L (SOIC, 8-Leads, Body 4.9x3.9mm, Pitch 1.27mm, IPC High Density)
footprint ADI-R-8_M (SOIC, 8-Leads, Body 4.9x3.9mm, Pitch 1.27mm, IPC Low Density)
pins on every part: 4 -VS (power), 8 +VS (power)
part A pins: 1 OUT 1 (out), 2 -IN 1 (in), 3 +IN 1 (in)
part B pins: 5 +IN 2 (in), 6 -IN 2 (in), 7 OUT 2 (out)

## AD8058ARZ-REEL
designator U?
Double Channel Low Power Operational Amplifier, 325 MHz BW, 1.15 KV/us SR, Industrial, 8-pin SOIC (R-8), Reel; Generic Part Number: AD8058; Manufacturer: Analog Devices; PartNumber: AD8058ARZ-REEL; Amplifiers Per Package: 2; Input Bias Current: 500nA; Input Offset Voltage: 1mV; Iq/Amp: 7.5mA; Small Signal Bandwidth: 325MHz; V Span Max: 12V; V Span Min: 3V; DatasheetVersion: Rev. C; PackageVersion: 060506-A; PackageReference: R-8; PackageDescription: 8-Pin Standard Small Outline Package, Body 3.9 x 4.9 mm, Pitch 1.27 mm; Supplier 1: Digi-Key; Supplier Part Number 1: AD8058ARZ-REEL-ND; Supplier 2: Newark; Supplier Part Number 2: 82H2968; Slew Rate: 1.15KV/us; Mounting Technology: Surface Mount; Code_JEDEC: MS-012-AA; ComponentLink1Description: Manufacturer URL; ComponentLink1URL: http://www.analog.com/en/index.html; ComponentLink2Description: Datasheet; ComponentLink2URL: http://www.analog.com/static/imported-files/data_sheets/AD8057_8058.pdf; ComponentLink3Description: Package Specification; ComponentLink3URL: http://www.analog.com/static/imported-files/packages/PKG_PDF/SOIC_Narrow%20(R)/R_8.pdf
footprint ADI-R-8_N (SOIC, 8-Leads, Body 4.9x3.9mm, Pitch 1.27mm, IPC Medium Density)
footprint ADI-R-8_L (SOIC, 8-Leads, Body 4.9x3.9mm, Pitch 1.27mm, IPC High Density)
footprint ADI-R-8_M (SOIC, 8-Leads, Body 4.9x3.9mm, Pitch 1.27mm, IPC Low Density)
pins on every part: 4 -VS (power), 8 +VS (power)
part A pins: 1 OUT 1 (out), 2 -IN 1 (in), 3 +IN 1 (in)
part B pins: 5 +IN 2 (in), 6 -IN 2 (in), 7 OUT 2 (out)

## AD8058ARZ-REEL7
designator U?
Double Channel Low Power Operational Amplifier, 325 MHz BW, 1.15 KV/us SR, Industrial, 8-pin SOIC (R-8), Reel; Generic Part Number: AD8058; Manufacturer: Analog Devices; PartNumber: AD8058ARZ-REEL7; Amplifiers Per Package: 2; Input Bias Current: 500nA; Input Offset Voltage: 1mV; Iq/Amp: 7.5mA; Small Signal Bandwidth: 325MHz; V Span Max: 12V; V Span Min: 3V; DatasheetVersion: Rev. C; PackageVersion: 060506-A; PackageReference: R-8; PackageDescription: 8-Pin Standard Small Outline Package, Body 3.9 x 4.9 mm, Pitch 1.27 mm; Supplier 1: Digi-Key; Supplier Part Number 1: AD8058ARZ-REEL7TR-ND; Supplier 2: Digi-Key; Supplier Part Number 2: AD8058ARZ-REEL7CT-ND; Supplier 3: Digi-Key; Supplier Part Number 3: AD8058ARZ-REEL7DKR-ND; Supplier 4: Newark; Supplier Part Number 4: 82H2969; Slew Rate: 1.15KV/us; Mounting Technology: Surface Mount; Code_JEDEC: MS-012-AA; ComponentLink1Description: Manufacturer URL; ComponentLink1URL: http://www.analog.com/en/index.html; ComponentLink2Description: Datasheet; ComponentLink2URL: http://www.analog.com/static/imported-files/data_sheets/AD8057_8058.pdf; ComponentLink3Description: Package Specification; ComponentLink3URL: http://www.analog.com/static/imported-files/packages/PKG_PDF/SOIC_Narrow%20(R)/R_8.pdf
footprint ADI-R-8_N (SOIC, 8-Leads, Body 4.9x3.9mm, Pitch 1.27mm, IPC Medium Density)
footprint ADI-R-8_L (SOIC, 8-Leads, Body 4.9x3.9mm, Pitch 1.27mm, IPC High Density)
footprint ADI-R-8_M (SOIC, 8-Leads, Body 4.9x3.9mm, Pitch 1.27mm, IPC Low Density)
pins on every part: 4 -VS (power), 8 +VS (power)
part A pins: 1 OUT 1 (out), 2 -IN 1 (in), 3 +IN 1 (in)
part B pins: 5 +IN 2 (in), 6 -IN 2 (in), 7 OUT 2 (out)

## AD8061AR
designator U?
Single Channel Low Offset Voltage Operational Amplifier, 320 MHz BW, 650 V/us SR, Industrial, 8-pin SOIC (R-8), Tube; Generic Part Number: AD8061; Manufacturer: Analog Devices; PartNumber: AD8061AR; Amplifiers Per Package: 1; Input Bias Current: 350nA; Input Offset Voltage: 1mV; Iq/Amp: 9.5mA; Small Signal Bandwidth: 320MHz; V Span Max: 8V; V Span Min: 2.7V; DatasheetVersion: Rev. G; PackageVersion: 060506-A; PackageReference: R-8; PackageDescription: 8-Pin Standard Small Outline Package, Body 3.9 x 4.9 mm, Pitch 1.27 mm; Supplier 1: Digi-Key; Supplier Part Number 1: AD8061AR-ND; Slew Rate: 650V/us; Mounting Technology: Surface Mount; Code_JEDEC: MS-012-AA; ComponentLink1Description: Manufacturer URL; ComponentLink1URL: http://www.analog.com/en/index.html; ComponentLink2Description: Datasheet; ComponentLink2URL: http://www.analog.com/static/imported-files/data_sheets/AD8061_8062_8063.pdf; ComponentLink3Description: Package Specification; ComponentLink3URL: http://www.analog.com/static/imported-files/packages/PKG_PDF/SOIC_Narrow%20(R)/R_8.pdf
footprint ADI-R-8_N (SOIC, 8-Leads, Body 4.9x3.9mm, Pitch 1.27mm, IPC Medium Density)
footprint ADI-R-8_L (SOIC, 8-Leads, Body 4.9x3.9mm, Pitch 1.27mm, IPC High Density)
footprint ADI-R-8_M (SOIC, 8-Leads, Body 4.9x3.9mm, Pitch 1.27mm, IPC Low Density)
part A pins: 2 -IN (in), 3 +IN (in), 4 -VS (power), 6 VOUT (out), 7 +VS (power)
part B pins: 1 NC, 5 NC, 8 NC

## AD8061ART-R2
designator U?
Single Channel Low Offset Voltage Operational Amplifier, 320 MHz BW, 650 V/us SR, Industrial, 5-pin SOT23 (RJ-5), Reel; Generic Part Number: AD8061; Manufacturer: Analog Devices; PartNumber: AD8061ART-R2; Amplifiers Per Package: 1; Input Bias Current: 350nA; Input Offset Voltage: 1mV; Iq/Amp: 9.5mA; Small Signal Bandwidth: 320MHz; V Span Max: 8V; V Span Min: 2.7V; DatasheetVersion: Rev. G; PackageVersion: 121608-A; PackageReference: RJ-5; PackageDescription: 5-Pin Small Outline Transistor Package, Body 2.9 x 1.6 mm, Pitch 0.95 mm; Supplier 1: Newark; Supplier Part Number 1: 61H4963; Slew Rate: 650V/us; Mounting Technology: Surface Mount; Code_JEDEC: MO-178-AA; ComponentLink1Description: Manufacturer URL; ComponentLink1URL: http://www.analog.com/en/index.html; ComponentLink2Description: Datasheet; ComponentLink2URL: http://www.analog.com/static/imported-files/data_sheets/AD8061_8062_8063.pdf; ComponentLink3Description: Package Specification; ComponentLink3URL: http://www.analog.com/static/imported-files/packages/PKG_PDF/SOT-23(RJ)/RJ_5.pdf
footprint ADI-RJ-5_N (SOT-23, 5-Leads, Body 2.9x1.6mm, Pitch 0.95mm, IPC Medium Density)
footprint ADI-RJ-5_L (SOT-23, 5-Leads, Body 2.9x1.6mm, Pitch 0.95mm, IPC High Density)
footprint ADI-RJ-5_M (SOT-23, 5-Leads, Body 2.9x1.6mm, Pitch 0.95mm, IPC Low Density)
pins: 1 VOUT (out), 2 -VS (power), 3 +IN (in), 4 -IN (in), 5 +VS (power)